# EAGLE library part IS31FL3235A (library pimoroni-ics)
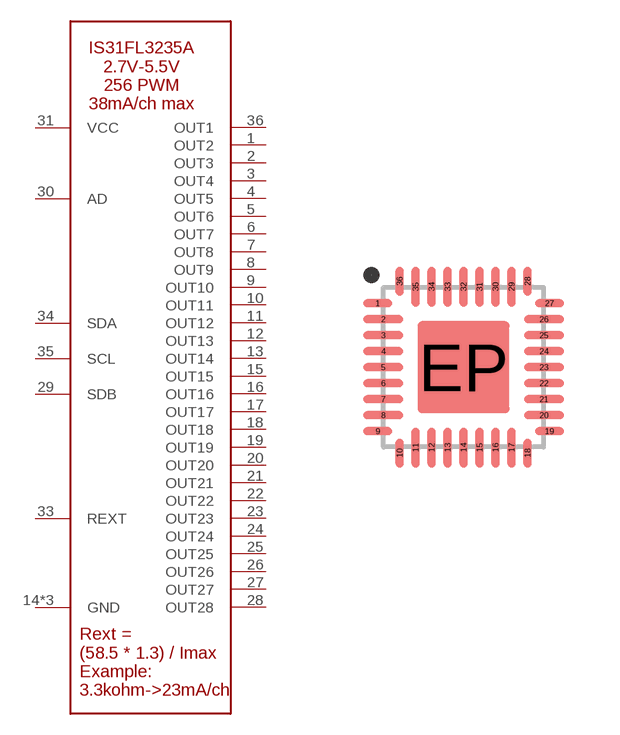
[diagram p79: symbol with the pads of QFN-36-4MM-0.4MM; footprint QFN-36-4MM-0.4MM]

Designator prefix U

## IS31FL3235A  [QFN-36-4MM-0.4MM]
1  OUT2
2  OUT3
3  OUT4
4  OUT5
5  OUT6
6  OUT7
7  OUT8
8  OUT9
9  OUT10
10  OUT11
11  OUT12
12  OUT13
13  OUT14
14  GND
15  OUT15
16  OUT16
17  OUT17
18  OUT18
19  OUT19
20  OUT20
21  OUT21
22  OUT22
23  OUT23
24  OUT24
25  OUT25
26  OUT26
27  OUT27
28  OUT28
29  SDB
30  AD
31  VCC
32  GND
33  REXT
34  SDA
35  SCL
36  OUT1
EP  GND

## Footprint QFN-36-4MM-0.4MM (pad centres in mm)
smd 0.725 x 0.2: 1 -2.147,1.6; 9 -2.147,-1.6; 19 2.147,-1.6; 27 2.147,1.6
smd 1 x 0.2: 2 -2.01,1.2; 3 -2.01,0.8; 4 -2.01,0.4; 5 -2.01,0; 6 -2.01,-0.4; 7 -2.01,-0.8; 8 -2.01,-1.2; 20 2.01,-1.2; 21 2.01,-0.8; 22 2.01,-0.4; 23 2.01,0; 24 2.01,0.4; 25 2.01,0.8; 26 2.01,1.2
smd 0.2 x 0.725: 10 -1.6,-2.147; 18 1.6,-2.147; 28 1.6,2.147; 36 -1.6,2.147
smd 0.2 x 1: 11 -1.2,-2.01; 12 -0.8,-2.01; 13 -0.4,-2.01; 14 0,-2.01; 15 0.4,-2.01; 16 0.8,-2.01; 17 1.2,-2.01; 29 1.2,2.01; 30 0.8,2.01; 31 0.4,2.01; 32 0,2.01; 33 -0.4,2.01; 34 -0.8,2.01; 35 -1.2,2.01
smd 2.3 x 2.3: EP 0,0